# Altium schematic symbol library MSP430 Car.SchLib: 8 symbols
Pins are listed as number, name and electrical type; pins without a type are passive.

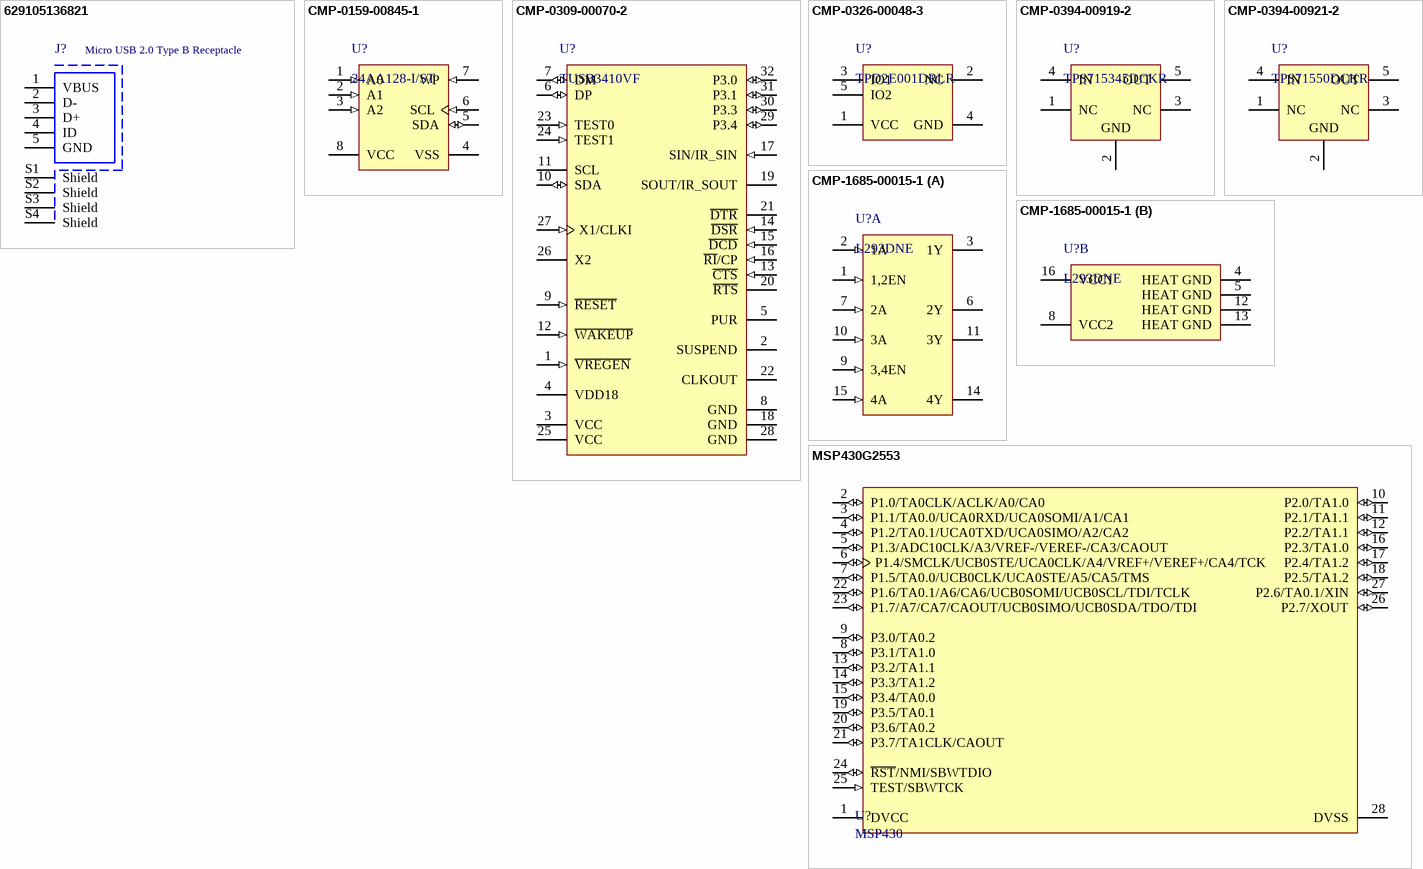
[diagram p0: symbols 629105136821 to MSP430G2553]

## 629105136821
designator J?, comment Micro USB 2.0 Type B Receptacle
Micro USB 2.0 Type B, Receptacle, Horizontal, SMT; Part Number: 629105136821; Rated Current: 1A; Pin Number: 5; Interface Type: Type B; Working Voltage: 30VAC; ComponentLink1Description: Manufacturer; ComponentLink1URL: http://www.we-online.de; ComponentLink2Description: Datasheet; ComponentLink2URL: https://katalog.we-online.com/em/datasheet/629105136821.pdf; Published Date: September 2019; Publisher: Wurth Elektronik; Gender: Receptacle; Type: Horizontal; Packaging: Tape and Reel; Operating Temperature: -40 to +105degC; Mounting Technology: SMT; Application: Micro USB 2.0
footprint 629105136821
pins: 1 VBUS, 2 D-, 3 D+, 4 ID, 5 GND, S1 Shield, S2 Shield, S3 Shield, S4 Shield

## CMP-0159-00845-1
designator U?, comment 24AA128-I/ST
128Kbit, 400kHz, 1.7V, I2C Serial EEPROM, 8-Pin TSSOP, Industrial Temperature; Code_JEDEC: MO-153; PackageReference: TSSOP-ST8; PackageVersion: revBB, Aug-2009; PackageDescription: 8-Lead Plastic Thin Shrink Small Outline (ST) - 4.4mm Body [TSSOP]; DatasheetVersion: revR, Apr-2009
footprint TSSOP-ST8_N (TSOP, 8-Leads, Body 3x4.4mm, Pitch 0.65mm, IPC Medium Density)
footprint TSSOP-ST8_M (TSOP, 8-Leads, Body 3x4.4mm, Pitch 0.65mm, IPC Low Density)
footprint TSSOP-ST8_L (TSOP, 8-Leads, Body 3x4.4mm, Pitch 0.65mm, IPC High Density)
pins: 1 A0 (in), 2 A1 (in), 3 A2 (in), 4 VSS (power), 5 SDA (io), 6 SCL (in), 7 WP (in), 8 VCC (power)

## CMP-0309-00070-2
designator U?, comment TUSB3410VF
2 MIPs, RS232 / IrDA Serial-to-USB Converter, 16 KBytes, 8052, 3.3V, 0 to 70 degC, 32-Pin LQFP (VF), Green (RoHS & no Sb/Br); Manufacturer: Texas Instruments; Integrated MCU Architecture: 8052; Supply Voltage(s)(V): 3.3; SubFamily: USB Peripheral; GPIO Pins(#): 4; DMA: True; MCU Code Space(KBytes): 16; Number of Endpoints OUT: 3; MCU Speed(Max)(MIPs): 2; USB Speed: Full; Application Interface: Enhanced, UART; PartNumber: TUSB3410VF; ComponentLink1URL: http://www.ti.com/general/docs/lit/getliterature.tsp?genericPartNumber=TUSB3410&fileType=pdf; PackageReference: VF0032A; ComponentLink2URL: http://www.ti.com/litv/pdf/mtqf002b; ComponentLink1Description: Datasheet; Interrupt Transfer: True; ComponentLink2Description: Package Specification; Control Transfer: True; PackageDescription: 32-Pin Plastic Quad Flatpack, 7 x 7 mm Body, 0.8 mm Pitch; Bulk Transfer: True; DatasheetVersion: SLLS519H; Remote Wakeup: True; Mounting Technology: Surface Mount; PackageVersion: revD, Apr-2000; Eco-Plan: Green (RoHS & no Sb/Br); Number of Endpoints IN: 3
footprint VF0032A_M (QFP, 32-Leads, Body 7x7mm, Pitch 0.8mm, IPC Low Density)
footprint VF0032A_N (QFP, 32-Leads, Body 7x7mm, Pitch 0.8mm, IPC Medium Density)
footprint VF0032A_L (QFP, 32-Leads, Body 7x7mm, Pitch 0.8mm, IPC High Density)
pins: 1 ~{VREGEN} (in) "This active-low terminal is used to enable the 3.3-V to 1.8-V voltage regulator.", 2 SUSPEND (hiz) "Suspend indicator terminal (see Note 3). When this terminal is asserted high, the device is in suspend mode.", 3 VCC (power) "3.3 V", 4 VDD18 (power) "1.8-V supply. An internal voltage regulator generates this supply voltage when terminal V\R\E\G\E\N\ islow. When V\R\E\G\E\N\ is high, 1.8 V must be supplied externally.", 5 PUR (hiz) "Pull-up resistor connection (see Note 2)", 6 DP (io) "Upstream USB port differential data plus", 7 DM (io) "Upstream USB port differential data minus", 8 GND (power) "Digital ground", 9 ~{RESET} (in) "Device master reset input (see Note 4)", 10 SDA (io) "Master I2C controller: data signal (see Notes 1 and 5)", 11 SCL (hiz) "Master I2C controller: clock signal (see Note 1)", 12 ~{WAKEUP} (in) "Remote wake-up request terminal. When low, wakes up system (see Note 5)", 13 ~{CTS} (in) "UART: Clear to send (see Note 4)", 14 ~{DSR} (in) "UART: Data set ready (see Note 4)", 15 ~{DCD} (in) "UART: Data carrier detect (see Note 4)", 16 ~{RI}/CP (in) "UART: Ring indicator (see Note 4)", 17 SIN/IR_SIN (in) "UART: Serial input data / IR Serial data input (see Note 6)", 18 GND (power) "Digital ground", 19 SOUT/IR_SOUT (hiz) "UART: Serial output data / IR Serial data output (see Note 7)", 20 ~{RTS} (hiz) "UART: Request to send (see Note 1)", 21 ~{DTR} (hiz) "UART: Data terminal ready (see Note 1)", 22 CLKOUT (hiz) "Clock output (controlled by bits 2 (CLKOUTEN) and 3(CLKSLCT) in the MODECNFG register (see Section 5.5 and Note 1)", 23 TEST0 (in) "Test input (for factory test only) (see Note 5). This terminal must be tied to VCC through a 10-kO resistor.", 24 TEST1 (in) "Test input (for factory test only) (see Note 5). This terminal must be tied to VCC through a 10-kO resistor.", 25 VCC (power) "3.3 V", 26 X2 "12-MHz crystal output", 27 X1/CLKI (in) "12-MHz crystal input or clock input", 28 GND (power) "Digital ground", 29 P3.4 (io) "General-purpose I/O 4 (port 3, terminal 4) (see Notes 3, 5, and 8)", 30 P3.3 (io) "General-purpose I/O 3 (port 3, terminal 3) (see Notes 3, 5, and 8)", 31 P3.1 (io) "General-purpose I/O 1 (port 3, terminal 1) (see Notes 3, 5, and 8)", 32 P3.0 (io) "General-purpose I/O 0 (port 3, terminal 0) (see Notes 3, 5, and 8)"

## CMP-0326-00048-3
designator U?, comment TPD2E001DRLR
Low-Capacitance + / - 15 kV ESD-Protection Array for High-Speed Data Interfaces, 2 Channels, -40 to +85 degC, 5-pin SOT (DRL), Green (RoHS & no Sb/Br); Manufacturer: Texas Instruments; IO Leakage Current(nA): 1; IEC 61000-4-2 Air-Gap(+/- kV): 15; IEC 61000-4-2 Contact(+/- kV): 8; SubFamily: ESD Solution; IO Capacitance(Typ)(pF): 1.5; Breakdown Voltage(Min)(V): 11; USB High Speed: TRUE; ComponentLink3Description: URL Link1; PackageReference: DRL0005A; PartNumber: TPD2E001DRLR; PackageDescription: 5-Pin Plastic Small Outline, Flat Lead 0.5 mm Pitch; PackageVersion: revD, Aug-2007; DatasheetVersion: SLLS684F; ComponentLink1Description: Manufacturer URL; ComponentLink2Description: Datasheet; ComponentLink1URL: http://www.ti.com/; ComponentLink2URL: http://www.ti.com/general/docs/lit/getliterature.tsp?genericPartNumber=TPD2E001&fileType=pdf; ComponentLink3URL: SamplesURL:http://www.ti.com/product/tpd2e001#samples; Eco-Plan: Green (RoHS & no Sb/Br); Mounting Technology: Surface Mount
footprint DRL0005A_N (SOT23, 5-Leads, Body 1.7x1.3mm, Pitch 0.5mm, IPC Medium Density)
footprint DRL0005A_L (SOT23, 5-Leads, Body 1.7x1.3mm, Pitch 0.5mm, IPC High Density)
footprint DRL0005A_M (SOT23, 5-Leads, Body 1.7x1.3mm, Pitch 0.5mm, IPC Low Density)
pins: 1 VCC (power) "Power-supply input. Bypass VCC to GND with a 0.1-uF ceramic capacitor.", 2 NC "No connection. Not internally connected.", 3 IO1 "ESD-protected channel", 4 GND (power) "Ground", 5 IO2 "ESD-protected channel"

## CMP-0394-00919-2
designator U?, comment TPS715345DCKR
Single Output LDO, 50 mA, Fixed 3.45 V Output, 3 to 24 V Input, 5-pin SC70 (DCK), -40 to 85 degC, Green (RoHS & no Sb/Br); Manufacturer: Texas Instruments; Vout Adj(Max)(V): 3.45; Accuracy(%): 4; Iout(Max)(A): 0.05; Vin(Max)(V): 24; Iq(Typ)(mA): 0.003; SubFamily: Single Channel LDO; Vin(Min)(V): 3; Vdo(Typ)(mV): 415; ComponentLink2URL: http://www.ti.com/general/docs/lit/getliterature.tsp?genericPartNumber=TPS715345&fileType=pdf; PackageReference: DCK0005A; Eco-Plan: Green (RoHS & no Sb/Br); Vout Adj(Min)(V): 3.45; Fixed Output Options(V): 3.45; ComponentLink3URL: http://www.ti.com/litv/pdf/mpds025f; ComponentLink3Description: Package Specification; ComponentLink1URL: http://www.ti.com/; DatasheetVersion: SLVS338P; Code_JEDEC: MO-203; PackageVersion: 4093553-3/G; PackageDescription: 5-Pin Plastic Small-Outline, Body 2 x 1.25 mm, Pitch 0.65 mm; ComponentLink1Description: Manufacturer URL; ComponentLink2Description: Datasheet; PartNumber: TPS715345DCKR; Mounting Technology: Surface Mount
footprint DCK0005A_N (SOT23, 5-Leads, Body 2.15x1.4mm, Pitch 0.65mm, IPC Medium Density)
footprint DCK0005A_L (SOT23, 5-Leads, Body 2.15x1.4mm, Pitch 0.65mm, IPC High Density)
footprint DCK0005A_M (SOT23, 5-Leads, Body 2.15x1.4mm, Pitch 0.65mm, IPC Low Density)
pins: 1 NC "No connection", 2 GND (power) "Ground", 3 NC "No connection", 4 IN (power) "Input supply", 5 OUT (power) "Output of the regulator, any output capacitor >= 0.47 uF can be used for stability."

## CMP-0394-00921-2
designator U?, comment TPS71550DCKR
Single Output LDO, 50 mA, Fixed 5 V Output, 3 to 24 V Input, 5-pin SC70 (DCK), -40 to 85 degC, Green (RoHS & no Sb/Br); Manufacturer: Texas Instruments; Iq(Typ)(mA): 0.003; Vout Adj(Min)(V): 5; SubFamily: Single Channel LDO; Vin(Min)(V): 3; Iout(Max)(A): 0.05; Vdo(Typ)(mV): 415; Accuracy(%): 4; Vin(Max)(V): 24; PartNumber: TPS71550DCKR; Eco-Plan: Green (RoHS & no Sb/Br); ComponentLink1URL: http://www.ti.com/; PackageDescription: 5-Pin Plastic Small-Outline, Body 2 x 1.25 mm, Pitch 0.65 mm; ComponentLink3URL: http://www.ti.com/litv/pdf/mpds025f; Mounting Technology: Surface Mount; ComponentLink3Description: Package Specification; PackageVersion: 4093553-3/G; Vout Adj(Max)(V): 5; ComponentLink2URL: http://www.ti.com/general/docs/lit/getliterature.tsp?genericPartNumber=TPS71550&fileType=pdf; DatasheetVersion: SLVS338P; ComponentLink2Description: Datasheet; Code_JEDEC: MO-203; ComponentLink1Description: Manufacturer URL; PackageReference: DCK0005A; Fixed Output Options(V): 5
footprint DCK0005A_N (SOT23, 5-Leads, Body 2.15x1.4mm, Pitch 0.65mm, IPC Medium Density)
footprint DCK0005A_L (SOT23, 5-Leads, Body 2.15x1.4mm, Pitch 0.65mm, IPC High Density)
footprint DCK0005A_M (SOT23, 5-Leads, Body 2.15x1.4mm, Pitch 0.65mm, IPC Low Density)
pins: 1 NC "No connection", 2 GND (power) "Ground", 3 NC "No connection", 4 IN (power) "Input supply", 5 OUT (power) "Output of the regulator, any output capacitor >= 0.47 uF can be used for stability."

## CMP-1685-00015-1
designator U?, comment L293DNE
Quadruple Half-H Driver, 1.2 A Peak, 4.5 to 36 V, 0 to 70 degC, 16-Pin DIP (NE), Pb-Free (RoHS), Tube; Voltage Rating: 20 V; Tolerance: 10%; ESR: 800 mohm; Resistance: 0.8 Ohm; Capacitance: 22 uF; Packaging: Tape and Reel; PackageDescription: 16-Pin Through Hole Device, Body 19.8 x 6.35 mm, Pitch 2.54 mm, Row Spacing 7.62 mm; ComponentLink2URL: http://www.ti.com/general/docs/lit/getliterature.tsp?genericPartNumber=l293d&fileType=pdf; Case Code (Imperial): 2917; Max Operating Temperature: 125degC; Pins: 2; ComponentLink2Description: Datasheet; PackageVersion: 4040054/B, 04/1995; Radiation Hardening: No; Height: 3.1 mm; Mount: Surface Mount; ComponentLink3URL: http://www.ti.com/lit/ml/mpdi003/mpdi003.pdf; Width: 4.3 mm; Weight: 0.023634 oz; ComponentLink3Description: Package Specification; PackageReference: NE0016A; Length: 7.3 mm; Min Operating Temperature: -55degC; Case/Package: 2917; ComponentLink1Description: Manufacturer URL; Voltage Rating (DC): 20 V; DatasheetVersion: SLRS008D, 01/2016; Package Quantity: 500; RoHSCompliant: True; REACH SVHC: No SVHC; Code_JEDEC: MS-001; ComponentLink1URL: http://www.ti.com/; Case Code (Metric): 7343
footprint NE0016A (DIP, 16-Leads, Body 19.8x6.6mm, Pitch 2.54mm, Row Spacing 7.62mm)
part A pins: 1 1,2EN (in), 2 1A (in), 3 1Y (hiz), 6 2Y (hiz), 7 2A (in), 9 3,4EN (in), 10 3A (in), 11 3Y (hiz), 14 4Y (hiz), 15 4A (in)
part B pins: 4 HEAT GND (power), 5 HEAT GND (power), 8 VCC2 (power), 12 HEAT GND (power), 13 HEAT GND (power), 16 VCC1 (power)

## MSP430G2553
designator U?, comment MSP430
ComponentLink1Description: Datasheet; ComponentLink1URL: https://www.ti.com/lit/ds/symlink/msp430g2553.pdf?ts=1591648551123&ref_url=https://www.ti.com/product/MSP430G2553
footprint PW0028A_M (SOP, 28-Leads, Body 9.8x4.5mm, Pitch 0.65mm, IPC Low Density)
pins: 1 DVCC (power) "Digital supply voltage", 2 P1.0/TA0CLK/ACLK/A0/CA0 (io), 3 P1.1/TA0.0/UCA0RXD/UCA0SOMI/A1/CA1 (io), 4 P1.2/TA0.1/UCA0TXD/UCA0SIMO/A2/CA2 (io), 5 P1.3/ADC10CLK/A3/VREF-/VEREF-/CA3/CAOUT (io), 6 P1.4/SMCLK/UCB0STE/UCA0CLK/A4/VREF+/VEREF+/CA4/TCK (io), 7 P1.5/TA0.0/UCB0CLK/UCA0STE/A5/CA5/TMS (io), 8 P3.1/TA1.0 (io), 9 P3.0/TA0.2 (io), 10 P2.0/TA1.0 (io), 11 P2.1/TA1.1 (io), 12 P2.2/TA1.1 (io), 13 P3.2/TA1.1 (io), 14 P3.3/TA1.2 (io), 15 P3.4/TA0.0 (io), 16 P2.3/TA1.0 (io), 17 P2.4/TA1.2 (io), 18 P2.5/TA1.2 (io), 19 P3.5/TA0.1 (io), 20 P3.6/TA0.2 (io), 21 P3.7/TA1CLK/CAOUT (io), 22 P1.6/TA0.1/A6/CA6/UCB0SOMI/UCB0SCL/TDI/TCLK (io), 23 P1.7/A7/CA7/CAOUT/UCB0SIMO/UCB0SDA/TDO/TDI (io), 24 ~{RST}/NMI/SBWTDIO (io), 25 TEST/SBWTCK (in), 26 P2.7/XOUT (io), 27 P2.6/TA0.1/XIN (io), 28 DVSS "Ground reference"